# Altium schematic symbol library MOC3063SR2M.SchLib: 1 symbol
Pins are listed as number, name and electrical type; pins without a type are passive.

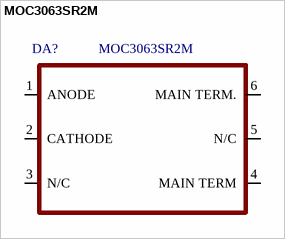
[diagram p0: symbol MOC3063SR2M]

## MOC3063SR2M
designator DA?
pins: 1 ANODE, 2 CATHODE, 3 N/C, 4 MAIN TERM, 5 N/C, 6 MAIN TERM.